# Altium footprint library SpectrumComponents.PcbLib: 18 footprints (part 1 of 2)
Each footprint in its own frame and in the unit in brackets; x right, y up, seen from the top. Pads: shape width x height; smd on the part's side, far side on the other; paste and mask are expansions set on the pad; w line width, h text height; cw(c..) or ccw(c..) is an arc to the next point about the centre after c.
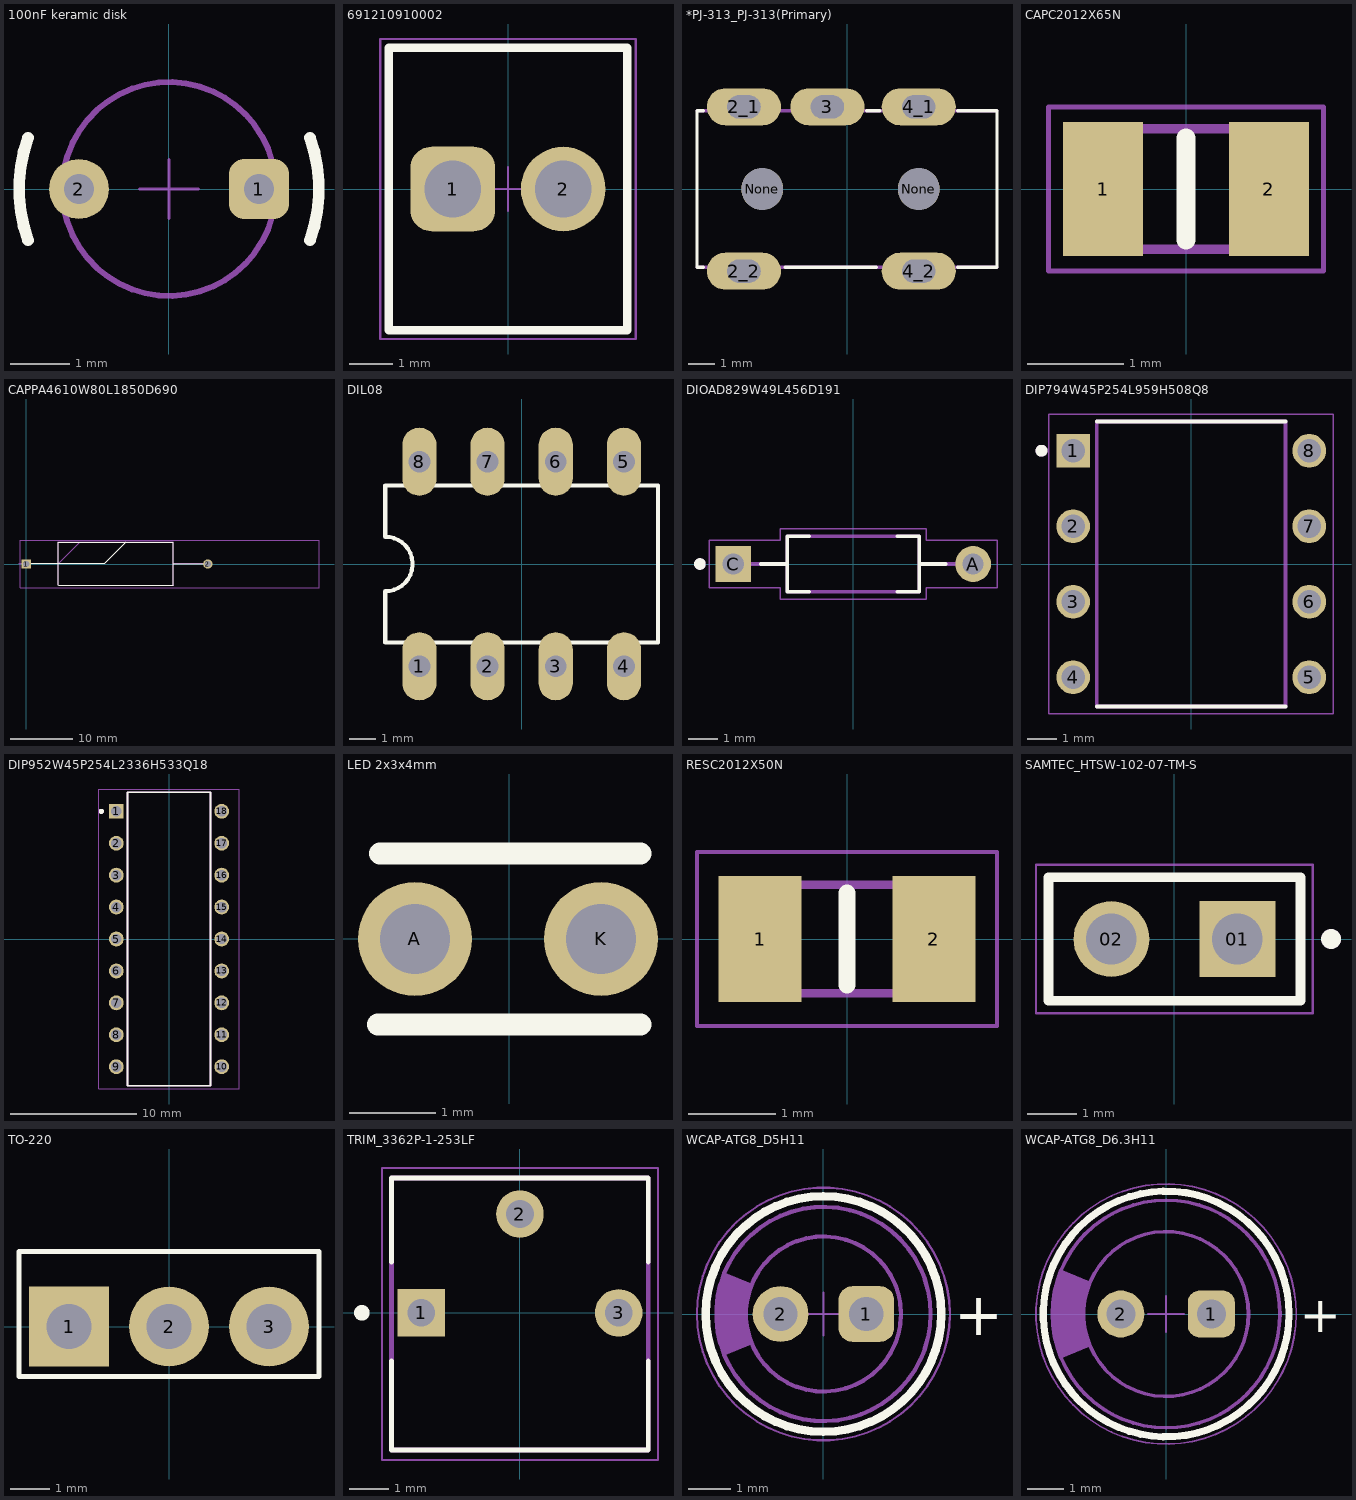
[diagram p0: the footprints below, top view; thin cyan lines are the x and y axes]

## 100nF keramic disk [mil] "100nF keramic disk cap"
height 196.85
pads (2):
  rrect50% 40x40 hole 20: 1(60,0)
  round 40 hole 20: 2(-60,0)
Top Overlay:
  lines w7.87: -93.97,-34.2 cw(c0,0) -93.97,34.2 ; 93.97,-34.2 ccw(c0,0) 93.97,34.2
Top Courtyard:
  lines w1.97: -19.68,0 19.68,0 ; 0,-19.68 0,19.68
Top 3D Body:
  circle w3.94: c0,0 r71.26
Top Component Outline:
  circle w3.94: c0,0 r71.26
3D body: height 10, standoff 0, extent -98.03,-81 98.43,82

## 691210910002 [mm] "2,54mm - modular - green - Horizontal wire entry - Cage clamp - 0,8mm2 wires - 02p"
height 8.5
pads (2):
  rrect50% 1.95x1.95 hole 1.3: 1(-1.27,0)
  round 1.95 hole 1.3: 2(1.27,0)
Top Overlay:
  lines w0.2: -2.74,-3.25 2.74,-3.25 2.74,3.25 -2.74,3.25 -2.74,-3.25
Top Courtyard:
  lines w0.05: -0.5,0 0.5,0 ; 0,-0.5 0,0.5 ; -2.94,-3.45 -2.94,3.45 2.94,3.45 2.94,-3.45 -2.94,-3.45
Top 3D Body:
  lines w0.1: -2.74,-3.25 2.74,-3.25 2.74,3.25 -2.74,3.25 -2.74,-3.25
Top Component Outline:
  lines w0.1: -2.74,-3.25 -2.74,3.25 2.74,3.25 2.74,-3.25 -2.74,-3.25
3D body "691210910002.stp": height 8.55, standoff -3.45, extent -2.74,-3.25 2.74,3.25

## *PJ-313_PJ-313(Primary) [mm]
pads (7):
  oval 2.845x1.422 hole 0.889 slot 1.27 at 0 deg: 2_1(-3.95,3.15) 2_2(-3.95,-3.15) 3(-0.75,3.15) 4_1(2.75,3.15) 4_2(2.75,-3.15)
  round 1.6 hole 1.6 unplated: None(-3.25,0) None(2.75,0)
Top Overlay:
  lines w0.127: -5.5,-3 -5.75,-3 -5.75,3 -5.5,3 ; -2.375,-3 1.125,-3 ; 0.75,3 1.25,3 ; 4.25,-3 5.75,-3 5.75,3 4.25,3
Mechanical 1:
  region: -1.4,3.55 -0.1,3.55 -0.1,2.75 -1.4,2.75
  region: 2.1,-2.75 3.4,-2.75 3.4,-3.55 2.1,-3.55
  region: 2.1,3.55 3.4,3.55 3.4,2.75 2.1,2.75
  region: -4.6,-2.75 -3.3,-2.75 -3.3,-3.55 -4.6,-3.55
  region: -4.6,3.55 -3.3,3.55 -3.3,2.75 -4.6,2.75
Bottom Designator:
  lines w0.127: -5.75,-3 5.75,-3 -5.75,-3 ; -5.75,3 5.75,3 -5.75,3

## CAPC2012X65N [mm]
pads (2):
  rect 0.83x1.39 smd: 1(-0.86,0) 2(0.86,0)
Top Overlay:
  lines w0.2: 0,-0.525 0,0.525
Mechanical 13:
  lines w0.1: -1,-0.625 -1,0.625 1,0.625 1,-0.625 -1,-0.625
Mechanical 15:
  lines w0.05: -1.425,-0.85 -1.425,0.85 1.425,0.85 1.425,-0.85 -1.425,-0.85
3D body "ESR10EZPJ472.stp": height 0.65, standoff 0, extent -1,-0.625 1,0.625

## CAPPA4610W80L1850D690 [mm]
pads (2):
  rect 1.5x1.5 / inner round 1.5 / far side rect 1.5x1.5 hole 1: 1(0,0)
  round 1.5 hole 1: 2(29.21,0)
Top Overlay:
  lines w0.2: 0,0.102 12.632,0.102 16.082,3.552 ; 5.139,-3.425 5.139,3.475 23.639,3.475 23.639,-3.425 ; 5.189,-3.45 23.689,-3.45 ; 23.639,0.025 29.21,0.025
Mechanical 15:
  lines w0.1: -1.168,0.102 12.632,0.102 ; 5.113,-3.348 5.113,3.552 23.613,3.552 23.613,-3.348 ; 5.139,0.025 8.589,3.475 ; 5.215,-3.425 23.715,-3.425 ; 23.613,0.102 29.21,0.102
Mechanical 20:
  lines w0.05: -1,-3.8 -1,3.8 47.1,3.8 47.1,-3.8 -1,-3.8
3D body: height 7, standoff 0, extent 4.097,-3.297 24.097,3.454

## DIL08 [mil]
pads (8):
  oval 50x100 hole 32: 1(-150,-150) 2(-50,-150) 3(50,-150) 4(150,-150) 5(150,150) 6(50,150) 7(-50,150) 8(-150,150)
Top Overlay:
  lines w6: -200,-115 200,-115 200,115 -200,115 -200,40 cw(c-200,0) -200,-40 -200,-115

## DIOAD829W49L456D191 [mm]
pads (2):
  round 1.238 hole 0.73: A(4.146,0)
  rect 1.238x1.238 / inner round 1.238 / far side rect 1.238x1.238 hole 0.73: C(-4.146,0)
Top Overlay:
  circle w0.2: c-5.3,0 r0.1
  lines w0.127: -3.2,0 -2.28,0 ; -2.28,-0.96 -1.52,-0.96 ; -2.28,-0.95 -2.28,0 ; -1.52,0.96 -2.28,0.96 -2.28,0 ; 1.52,-0.96 2.28,-0.96 2.28,0 ; 1.52,0.96 2.28,0.96 ; 2.28,0.95 2.28,0 ; 3.2,0 2.28,0
Mechanical 13:
  circle w0.2: c-5.3,0 r0.1
  lines w0.127: -3.581,0 -2.28,0 ; 3.581,0 2.28,0 ; -2.28,0 -2.28,0.96 2.28,0.96 2.28,0 ; -2.28,0 -2.28,-0.96 2.28,-0.96 2.28,0
Mechanical 15:
  lines w0.05: -4.97,-0.815 -2.53,-0.815 -2.53,-1.21 2.53,-1.21 2.53,-0.815 4.97,-0.815 4.97,0.815 2.53,0.815 2.53,1.21 -2.53,1.21 -2.53,0.815 -4.97,0.815 -4.97,-0.815
3D body: height 0.25, standoff 0, extent -5.588,-1.27 5.334,1.27

## DIP794W45P254L959H508Q8 [mm]
pads (8):
  rect 1.13x1.13 / inner round 1.13 / far side rect 1.13x1.13 hole 0.78: 1(-3.97,3.81)
  round 1.13 hole 0.78: 2(-3.97,1.27) 3(-3.97,-1.27) 4(-3.97,-3.81) 5(3.97,-3.81) 6(3.97,-1.27) 7(3.97,1.27) 8(3.97,3.81)
Top Overlay:
  circle w0.2: c-5.035,3.81 r0.1
  lines w0.127: -3.175,-4.795 3.175,-4.795 ; -3.175,4.795 3.175,4.795
Mechanical 13:
  circle w0.2: c-5.035,3.81 r0.1
  lines w0.127: -3.175,-4.795 -3.175,4.795 3.175,4.795 3.175,-4.795 -3.175,-4.795
Mechanical 15:
  lines w0.05: -4.785,-5.045 -4.785,5.045 4.785,5.045 4.785,-5.045 -4.785,-5.045
3D body "step_temp.STEP": height 5.08, standoff -3.81, extent -3.937,-4.794 3.937,4.794

## DIP952W45P254L2336H533Q18 [mm]
pads (18):
  rect 1.18x1.18 hole 0.83: 1(-4.191,10.16)
  round 1.18 hole 0.83: 2(-4.191,7.62) 3(-4.191,5.08) 4(-4.191,2.54) 5(-4.191,0) 6(-4.191,-2.54) 7(-4.191,-5.08) 8(-4.191,-7.62) 9(-4.191,-10.16) 10(4.191,-10.16) 11(4.191,-7.62) 12(4.191,-5.08) 13(4.191,-2.54) 14(4.191,0) 15(4.191,2.54) 16(4.191,5.08) 17(4.191,7.62) 18(4.191,10.16)
Top Overlay:
  circle w0.2: c-5.385,10.16 r0.1
  lines w0.127: -3.302,-11.684 3.302,-11.684 3.302,11.684 -3.302,11.684 -3.302,-11.684
Mechanical 13:
  circle w0.2: c-5.385,10.16 r0.1
  lines w0.127: -3.302,-11.684 -3.302,11.684 3.302,11.684 3.302,-11.684 -3.302,-11.684
Mechanical 15:
  lines w0.05: -5.603,-11.934 -5.603,11.934 5.603,11.934 5.603,-11.934 -5.603,-11.934

## LED 2x3x4mm [mil]
pads (2):
  round 52 hole 32: A(-43,0) K(42,0)
Top Overlay:
  lines w10: -60,-39 60,-39 ; -59,39 60,39
3D body: height 10, standoff 0, extent -75,-45 75,45

## RESC2012X50N [mm]
pads (2):
  rect 0.95x1.45 smd: 1(-1,0) 2(1,0)
Top Overlay:
  lines w0.2: 0,-0.525 0,0.525
Mechanical 13:
  lines w0.1: -1.025,-0.625 -1.025,0.625 1.025,0.625 1.025,-0.625 -1.025,-0.625
Mechanical 15:
  lines w0.05: -1.725,-1 -1.725,1 1.725,1 1.725,-1 -1.725,-1
3D body "CRCW08055K60JNEA.stp": height 0.5, standoff 0, extent -1.025,-0.625 1.025,0.625

## SAMTEC_HTSW-102-07-TM-S [mm]
pads (2):
  rect 1.53x1.53 hole 1.02: 01(1.27,0)
  round 1.53 hole 1.02: 02(-1.27,0)
Top Overlay:
  circle w0.2: c3.16,0 r0.1
  lines w0.2: -2.54,-1.245 -2.54,1.245 2.54,1.245 2.54,-1.245 -2.54,-1.245
Mechanical 13:
  circle w0.2: c3.16,0 r0.1
  lines w0.1: -2.54,-1.245 -2.54,1.245 2.54,1.245 2.54,-1.245 -2.54,-1.245
Mechanical 15:
  lines w0.05: -2.79,-1.495 -2.79,1.495 2.79,1.495 2.79,-1.495 -2.79,-1.495

## TO-220 [mil]
pads (3):
  rect 80x80 hole 45: 1(-100,0)
  round 80 hole 45: 2(0,0) 3(100,0)
Top Overlay:
  lines w5: -150,-50 150,-50 150,75 -150,75 -150,-50
3D body "step_temp.STEP": height 1182, standoff 0, extent -196.25,-69.25 196.25,105.75

## TRIM_3362P-1-253LF [mil]
pads (3):
  rect 48.11x48.11 hole 28.11: 1(-100,0)
  round 48.11 hole 28.11: 2(0,100) 3(100,0)
Top Overlay:
  circle w7.87: c-160,0 r3.94
  lines w5: -129.92,-138.98 129.92,-138.98 ; -129.92,-138.58 -129.92,-48.62 ; -129.92,51.38 -129.92,136.61 129.92,136.61 129.92,51.38 ; 129.92,-138.58 129.92,-48.62
Mechanical 13:
  lines w5: -129.92,-138.98 -129.92,136.61 129.92,136.61 129.92,-138.98 -129.92,-138.98
Mechanical 15:
  lines w1.97: -139.76,-148.82 -139.76,146.46 139.76,146.46 139.76,-148.82 -139.76,-148.82
3D body "step_temp.STEP": height 25.59, standoff 0, extent -61.02,-31.5 61.02,31.5

## WCAP-ATG8_D5H11 [mm] "Aluminum Electrolytic Capacitors, 5x11mm"
height 11
pads (2):
  rrect50% 1.3x1.3 hole 0.8: 1(1,0)
  round 1.3 hole 0.8: 2(-1,0)
Top Overlay:
  circle w0.2: c0,0 r2.75
  text "+" at 3.05,-0.5 h1
Top Courtyard:
  circle w0.05: c0,0 r2.95
  lines w0.05: -0.5,0 0.5,0 ; 0,-0.5 0,0.5
Top 3D Body:
  circle w0.1: c0,0 r1.81
  circle w0.1: c0,0 r2.5
  region: -2.305,-0.968 -1.668,-0.702 -1.669,-0.701 -1.73,-0.532 -1.801,-0.18 -1.801,0.18 -1.73,0.532 -1.669,0.701 -1.668,0.702 -2.305,0.968 -2.402,0.738 -2.5,0.249 -2.5,-0.249 -2.402,-0.738
Top Component Outline:
  circle w0.1: c0,0 r1.81
  circle w0.1: c0,0 r2.5
  region: -2.305,-0.968 -1.668,-0.702 -1.669,-0.701 -1.73,-0.532 -1.801,-0.18 -1.801,0.18 -1.73,0.532 -1.669,0.701 -1.668,0.702 -2.305,0.968 -2.402,0.738 -2.5,0.249 -2.5,-0.249 -2.402,-0.738
3D body "5x11x2x0.5.stp": height 11.31, standoff -19.91, extent -2.49,-2.5 2.5,2.5

## WCAP-ATG8_D6.3H11 [mm] "Aluminum Electrolytic Capacitors, 6.3x11mm"
height 11
pads (2):
  rrect50% 1.3x1.3 hole 0.8: 1(1.25,0)
  round 1.3 hole 0.8: 2(-1.25,0)
Top Overlay:
  circle w0.2: c0,0 r3.4
  text "+" at 3.7,-0.5 h1
Top Courtyard:
  circle w0.05: c0,0 r3.6
  lines w0.05: -0.5,0 0.5,0 ; 0,-0.5 0,0.5
Top 3D Body:
  circle w0.1: c0,0 r2.28
  circle w0.1: c0,0 r3.15
  region: -2.902,-1.225 -2.963,-1.08 -3.056,-0.779 -3.119,-0.471 -3.15,-0.157 -3.15,0.157 -3.119,0.471 -3.056,0.779 -2.963,1.08 -2.902,1.225 -2.1,0.887 -2.101,0.885 -2.179,0.671 -2.269,0.227 -2.269,-0.227 -2.179,-0.671 -2.101,-0.885 -2.1,-0.887
Top Component Outline:
  circle w0.1: c0,0 r2.28
  circle w0.1: c0,0 r3.15
  region: -2.902,-1.225 -2.963,-1.08 -3.056,-0.779 -3.119,-0.471 -3.15,-0.157 -3.15,0.157 -3.119,0.471 -3.056,0.779 -2.963,1.08 -2.902,1.225 -2.1,0.887 -2.101,0.885 -2.179,0.671 -2.269,0.227 -2.269,-0.227 -2.179,-0.671 -2.101,-0.885 -2.1,-0.887
3D body "6.3x11x2.5x0.5.stp": height 11.31, standoff -19.91, extent -3.14,-3.15 3.15,3.15